# Altium footprint library KA78M05RTM.PcbLib: 1 footprints
Each footprint in its own frame and in the unit in brackets; x right, y up, seen from the top. Pads: shape width x height; smd on the part's side, far side on the other; paste and mask are expansions set on the pad; w line width, h text height; cw(c..) or ccw(c..) is an arc to the next point about the centre after c.
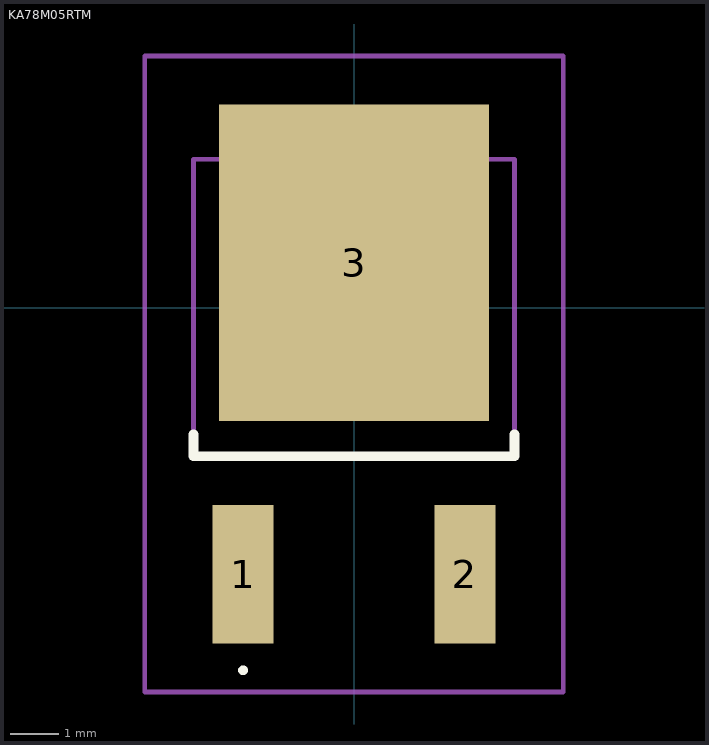
[diagram p0: the footprint, top view; thin cyan lines are the x and y axes]

## KA78M05RTM [mm]
pads (3):
  rect 1.25x2.85 smd: 1(-2.28,-5.475) 2(2.28,-5.475)
  rect 5.55x6.5 smd: 3(0,0.925)
Top Overlay:
  lines w0.1: -2.28,-7.5 -2.28,-7.5 ; -2.28,-7.5 ccw(c-2.28,-7.45) -2.28,-7.4 ; -2.28,-7.5 cw(c-2.28,-7.45) -2.28,-7.4 ; -2.28,-7.4 -2.28,-7.4
  lines w0.2: -3.3,-2.6 -3.3,-3 -3.3,-3.05 3.3,-3.05 3.3,-2.6
Mechanical 15:
  lines w0.1: -3.3,-3.05 3.3,-3.05 3.3,3.05 -3.3,3.05 -3.3,-3.05
Mechanical 20:
  lines w0.1: -4.3,-7.9 4.3,-7.9 4.3,5.175 -4.3,5.175 -4.3,-7.9